# Altium schematic symbol library 08055C224JAT2A.SchLib: 1 symbol
Pins are listed as number, name and electrical type; pins without a type are passive.

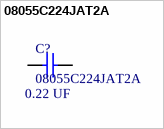
[diagram p0: symbol 08055C224JAT2A]

## 08055C224JAT2A
designator C?  Capacitance: 0.22 UF
CAP CER 0.22UF 50V X7R 0805; Manufacturer: AVX Corporation; Tolerance: ±5%; Notification: Current market demand for these product types have resulted in fluctuating and extending lead times. Lead times may differ.; Supplier 1: Digi-Key; Manufacturer Part Number: 08055C224JAT2A; RoHS: RoHS Compliant; Category: Capacitors; Stock 1: 25172; Pricing 1: 1=0.55, 10=0.387, 100=0.255, 500=0.18886, 1000=0.16053 (USD); Packaging: Cut Tape (CT); Part Status: Active; Voltage - Rated: 50V; Temperature Coefficient: X7R; Operating Temperature: -55°C ~ 125°C; Features: -; Ratings: -; Applications: General Purpose; Mounting Type: Surface Mount, MLCC; Package / Case: 0805 (2012 Metric); Size / Dimension: 0.079" L x 0.049" W (2.00mm x 1.25mm); Height - Seated (Max): -; Thickness (Max): 0.037" (0.94mm); Lead Spacing: -; Lead Style: -; ComponentLink1URL: http://datasheets.avx.com/X7RDielectric.pdf; ComponentLink1Description: http://datasheets.avx.com/X7RDielectric.pdf; Supplier Part Number 1: 478-7437-1-ND
pins: 1, 2